# EAGLE library part LTC3118 (library FaBo-Supply)
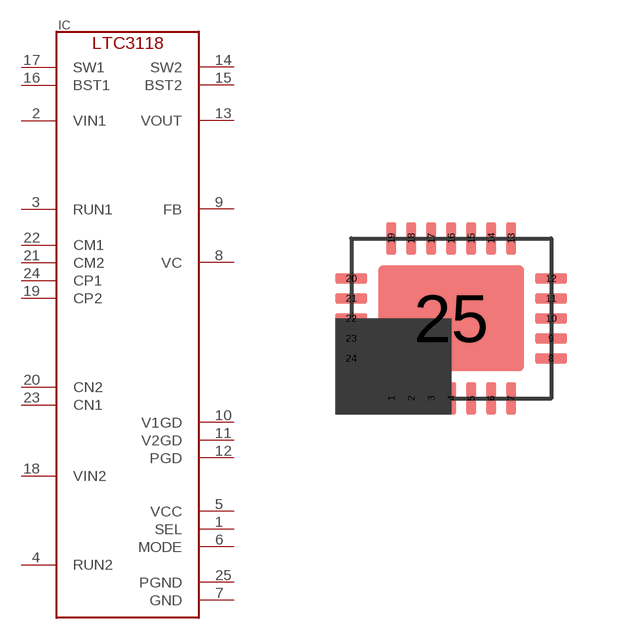
[diagram p14: symbol with the pads of UFDQFN-24; footprint UFDQFN-24]

Designator prefix IC

## LTC3118  [UFDQFN-24]
1  SEL
2  VIN1
3  RUN1
4  RUN2
5  VCC
6  MODE
7  GND
8  VC
9  FB
10  V1GD
11  V2GD
12  PGD
13  VOUT
14  SW2
15  BST2
16  BST1
17  SW1
18  VIN2
19  CP2
20  CN2
21  CM2
22  CM1
23  CN1
24  CP1
25  PGND

## Footprint UFDQFN-24 (pad centres in mm)
smd 0.25 x 0.8: 1 -1.5,-2; 2 -1,-2; 3 -0.5,-2; 4 0,-2; 5 0.5,-2; 6 1,-2; 7 1.5,-2; 13 1.5,2; 14 1,2; 15 0.5,2; 16 0,2; 17 -0.5,2; 18 -1,2; 19 -1.5,2
smd 0.8 x 0.25: 8 2.5,-1; 9 2.5,-0.5; 10 2.5,0; 11 2.5,0.5; 12 2.5,1; 20 -2.5,1; 21 -2.5,0.5; 22 -2.5,0; 23 -2.5,-0.5; 24 -2.5,-1
smd 3.65 x 2.65: 25 0,0